# Altium footprint library YZP_TI.PcbLib: 1 footprints
Each footprint in its own frame and in the unit in brackets; x right, y up, seen from the top. Pads: shape width x height; smd on the part's side, far side on the other; paste and mask are expansions set on the pad; w line width, h text height; cw(c..) or ccw(c..) is an arc to the next point about the centre after c.
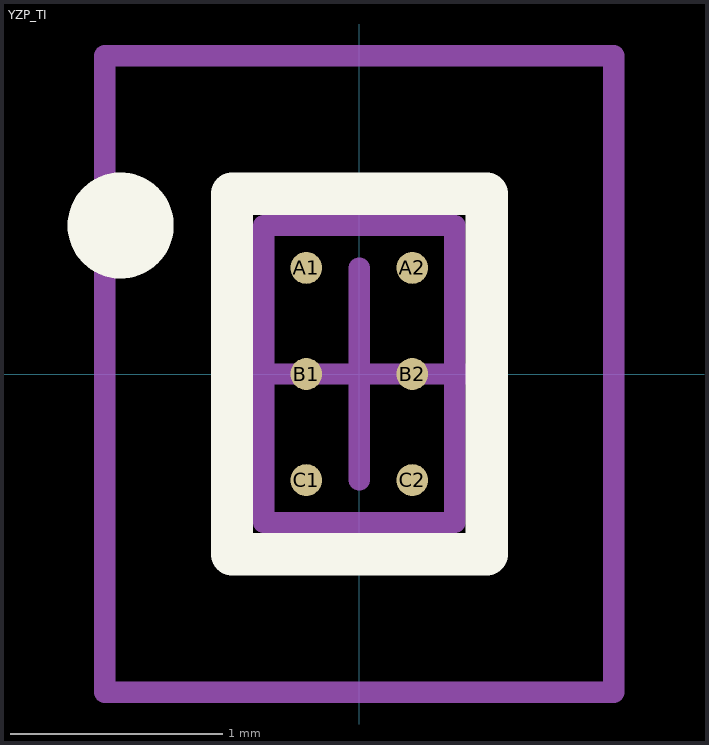
[diagram p0: the footprint, top view; thin cyan lines are the x and y axes]

## YZP_TI [mm]
height 0.5
pads (6):
  round 0.15 smd: A1(-0.25,0.5) A2(0.25,0.5) B1(-0.25,0) B2(0.25,0) C1(-0.25,-0.5) C2(0.25,-0.5)
Top Overlay:
  circle w0.25: c-1.125,0.7 r0.125
  lines w0.2: -0.6,-0.85 0.6,-0.85 0.6,0.85 -0.6,0.85 -0.6,-0.85
Mechanical 13:
  lines w0.1: -0.45,-0.7 0.45,-0.7 0.45,0.7 -0.45,0.7 -0.45,-0.7
Mechanical 15:
  lines w0.1: -0.5,0 0.5,0 ; 0,-0.5 0,0.5 ; -1.2,-1.5 1.2,-1.5 1.2,1.5 -1.2,1.5 -1.2,-1.5
3D body: height 0.46, standoff -0.02, extent -0.45,-0.7 0.45,0.7